# EAGLE library part SW-PWR-A03 (library _RoweTel)
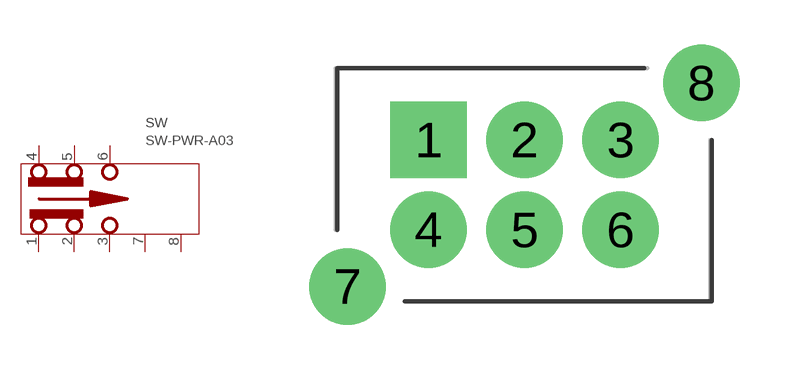
[diagram p70: symbol with the pads of A03-2SWITCH; footprint A03-2SWITCH]

Designator prefix SW

## SW-PWR-A03  [A03-2SWITCH]
1  1
2  2
3  3
4  4
5  5
6  6
7  7
8  8

## Footprint A03-2SWITCH (pad centres in mm)
drill 1.4 pad 2.54 square: 1 -3.2,1.5
drill 1.4 pad 2.54: 2 0,1.5; 3 3.2,1.5; 4 -3.2,-1.5; 5 0,-1.5; 6 3.2,-1.5; 7 -5.9,-3.4; 8 5.9,3.4